# EAGLE library part ARCOLECTRIC_SUPPLY_SWITCH (library Supply_Switch)
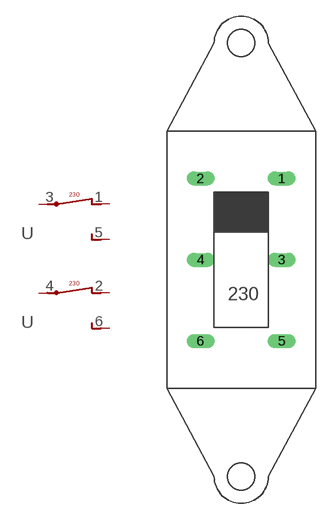
[diagram p0: symbol with the pads of ARC_ELE_PRINT; footprint ARC_ELE_PRINT]

Designator prefix -; gates A=U B=U

## ARCOLECTRIC_SUPPLY_SWITCH"  [ARC_ELE_PRINT]
1  A:P$2
2  B:P$2
3  A:P$1
4  B:P$1
5  A:P$3
6  B:P$3

## Footprint ARC_ELE_PRINT (pad centres in mm)
drill 0.8 long: 1 3.81,7.62; 2 -3.81,7.62; 3 3.81,0; 4 -3.81,0; 5 3.81,-7.62; 6 -3.81,-7.62